# EAGLE library part 62001021821 (library Wurth_Elektronik_Electromechanic_Board_to_Board_Connectors_rev16a)
WR-PHD 2.00mm Dual Socket Header, 10 Pins=>Code : Con_BTB_SHD_2.00_2_62001021821 <http://katalog.we-online.de/media/thumbs2/eican/thb_Con_BTB_SHD_2.00_2_6200xx21821_pf2.jpg> Details see: http://katalog.we-online.de/en/em/620_0xx_218_21 Created 2014-06-03, Karrer Zheng 2014 (C) Würth Elektronik
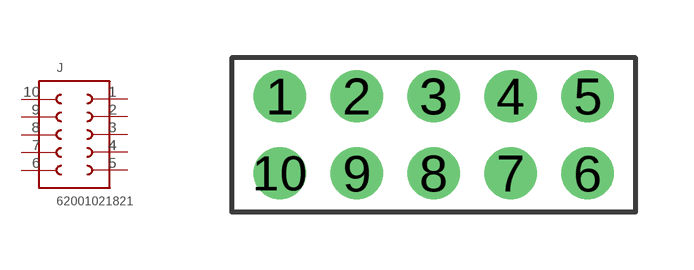
[diagram p257: symbol with the pads of 62001021821; footprint 62001021821]

Designator prefix J

## 62001021821  [62001021821]
1  1  pas
2  2  pas
3  3  pas
4  4  pas
5  5  pas
6  6  pas
7  7  pas
8  8  pas
9  9  pas
10  10  pas

## Footprint 62001021821 (pad centres in mm)
WR-PHD 2.00mm Dual Socket Header, 10 Pins
drill 0.85: 1 -4,1; 2 -2,1; 3 0,1; 4 2,1; 5 4,1; 6 4,-1; 7 2,-1; 8 0,-1; 9 -2,-1; 10 -4,-1